# EAGLE library part 61301621821 (library Wuerth_Elektronik_eiCan_Pin_&_Socked_Headers_v1.3)
WR-PHD 2.54mm Dual Socket Header, 16 Pins
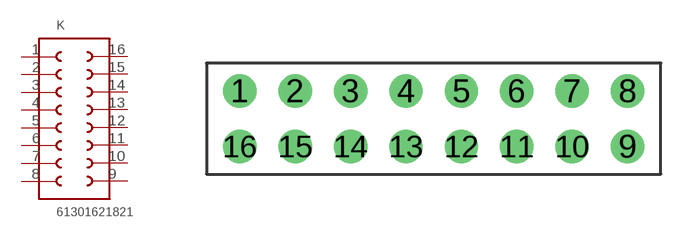
[diagram p132: symbol with the pads of 61301621821; footprint 61301621821]

Designator prefix K

## 61301621821  [61301621821]
1  1  pas
2  2  pas
3  3  pas
4  4  pas
5  5  pas
6  6  pas
7  7  pas
8  8  pas
9  9  pas
10  10  pas
11  11  pas
12  12  pas
13  13  pas
14  14  pas
15  15  pas
16  16  pas

## Footprint 61301621821 (pad centres in mm)
WR-PHD 2.54mm Dual Socket Header, 16 Pins
drill 1.02 round: 1 -8.89,1.27; 2 -6.35,1.27; 3 -3.81,1.27; 4 -1.27,1.27; 5 1.27,1.27; 6 3.81,1.27; 7 6.35,1.27; 8 8.89,1.27; 9 8.89,-1.27; 10 6.35,-1.27; 11 3.81,-1.27; 12 1.27,-1.27; 13 -1.27,-1.27; 14 -3.81,-1.27; 15 -6.35,-1.27; 16 -8.89,-1.27